# Altium footprint library capstonefootprints1.PcbLib: 17 footprints (part 2 of 2)
Each footprint in its own frame and in the unit in brackets; x right, y up, seen from the top. Pads: shape width x height; smd on the part's side, far side on the other; paste and mask are expansions set on the pad; w line width, h text height; cw(c..) or ccw(c..) is an arc to the next point about the centre after c.
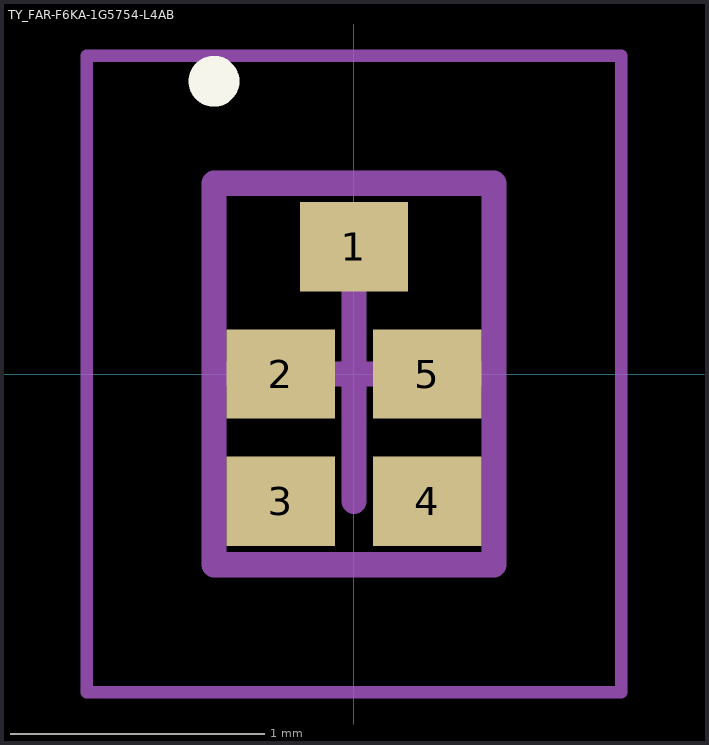
[diagram p1: the footprint, top view; thin cyan lines are the x and y axes]

## TY_FAR-F6KA-1G5754-L4AB [mm] "Taiyo Yuden Saw Filter"
height 0.5
pads (5):
  rect 0.425x0.35 smd mask+0.102: 1(0,0.5)
  rect 0.425x0.35 smd: 2(-0.288,0) 3(-0.288,-0.5) 4(0.288,-0.5) 5(0.288,0)
Top Overlay:
  circle w0.1: c-0.55,1.15 r0.05
Mechanical 13:
  lines w0.1: -0.55,-0.75 0.55,-0.75 0.55,0.75 -0.55,0.75 -0.55,-0.75
Mechanical 15:
  lines w0.05: -1.05,-1.25 1.05,-1.25 1.05,1.25 -1.05,1.25 -1.05,-1.25
  lines w0.1: -0.5,0 0.5,0 ; 0,-0.5 0,0.5
3D body: height 0.5, standoff 0, extent -0.55,-0.75 0.55,0.75